# Altium schematic symbol library digital.SchLib: 39 symbols
Pins are listed as number, name and electrical type; pins without a type are passive.

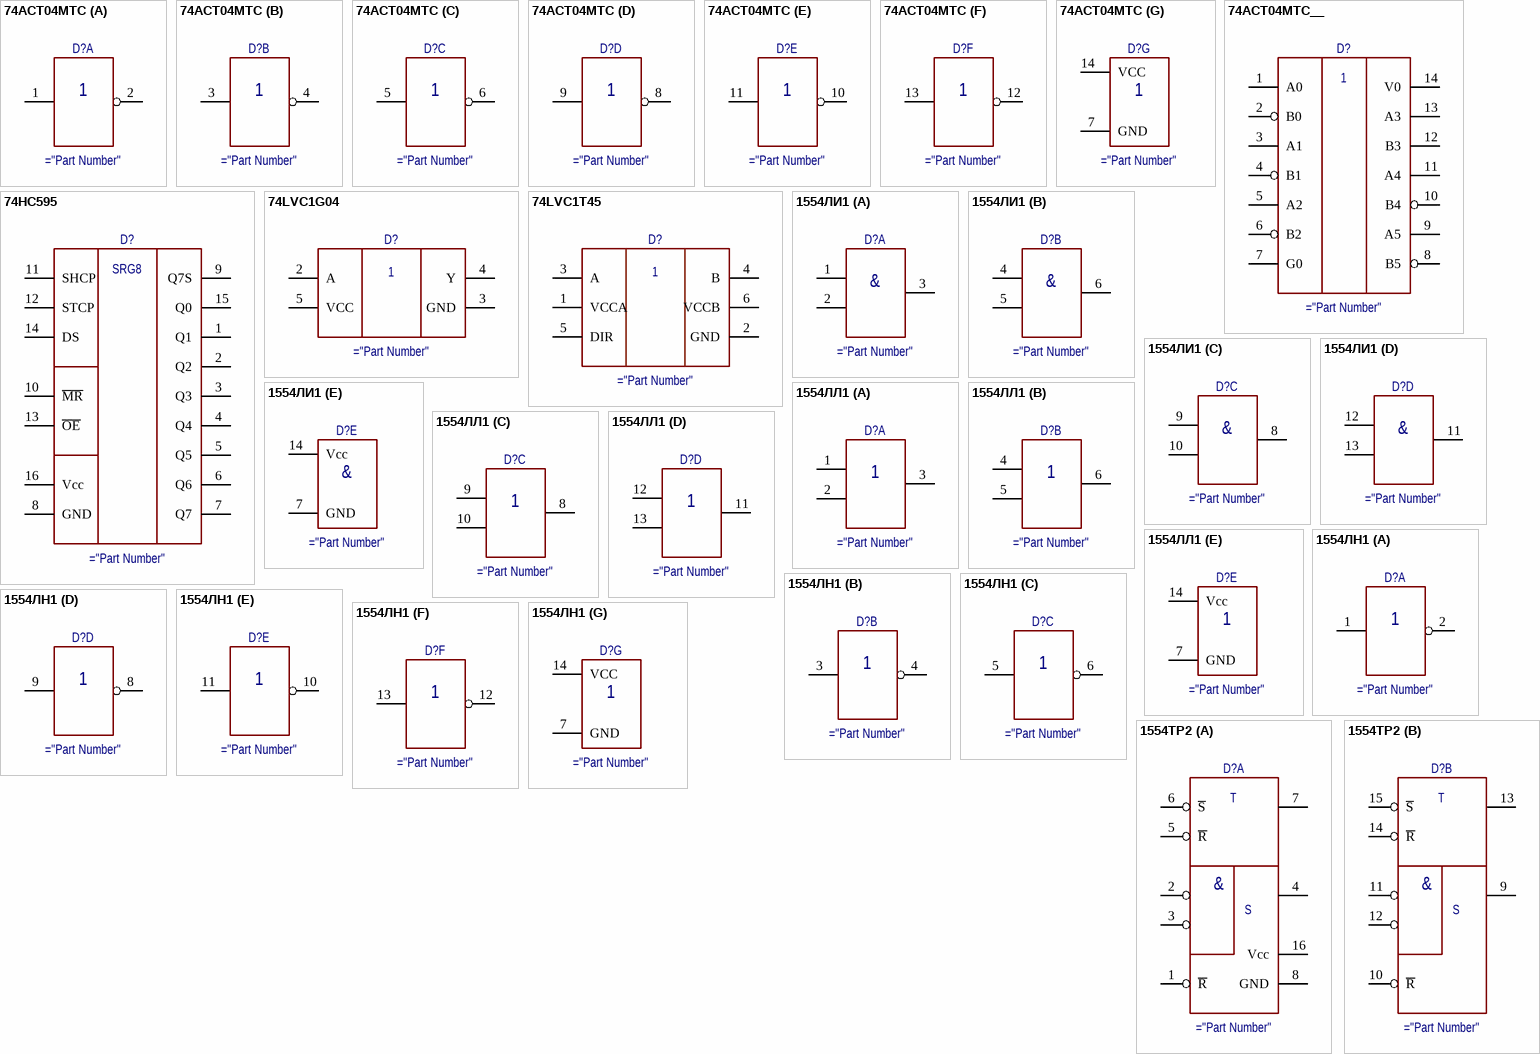
[diagram p0: symbols 74ACT04MTC to 1554ТР2]

## 74ACT04MTC
designator D?
6 элементов НЕ
part A pins: 1 X1, 2 Y1
part B pins: 3 X2, 4 Y2
part C pins: 5 X3, 6 Y3
part D pins: 8 Y4, 9 X4
part E pins: 10 Y5, 11 X5
part F pins: 12 Y6, 13 X6
part G pins: 7 GND, 14 VCC

## 74ACT04MTC__
designator D?
6 элементов НЕ
pins: 1 A0, 2 B0, 3 A1, 4 B1, 5 A2, 6 B2, 7 G0, 8 B5, 9 A5, 10 B4, 11 A4, 12 B3, 13 A3, 14 V0

## 74HC595
designator D?
Shift Register 8-bit
pins: 1 Q1, 2 Q2, 3 Q3, 4 Q4, 5 Q5, 6 Q6, 7 Q7, 8 GND, 9 Q7S, 10 ~{MR}, 11 SHCP, 12 STCP, 13 ~{OE}, 14 DS, 15 Q0, 16 Vcc
text: SRG8

## 74LVC1G04
designator D?
Single inverter, single direction
pins: 1 NC hidden, 2 A, 3 GND, 4 Y, 5 VCC

## 74LVC1T45
designator D?
Single bidirectional buffer 1.2-5.5V
pins: 1 NC hidden, 1 VCCA, 2 GND, 3 A, 4 B, 5 DIR, 6 VCCB

## 1554ЛИ1
designator D?
4 элемента 2И
part A pins: 1 A1, 2 B1, 3 Y1
part B pins: 4 A2, 5 B2, 6 Y2
part C pins: 8 Y3, 9 A3, 10 B3
part D pins: 11 Y4, 12 A4, 13 B4
part E pins: 7 GND, 14 Vcc
part A text: &
part B text: &
part C text: &
part D text: &
part E text: &

## 1554ЛЛ1
designator D?
4 элемента 2ИЛИ
part A pins: 1 A1, 2 B1, 3 Y1
part B pins: 4 A2, 5 B2, 6 Y2
part C pins: 8 Y3, 9 A3, 10 B3
part D pins: 11 Y4, 12 A4, 13 B4
part E pins: 7 GND, 14 Vcc

## 1554ЛН1
designator D?
6 элементов НЕ
part A pins: 1 X1, 2 Y1
part B pins: 3 X2, 4 Y2
part C pins: 5 X3, 6 Y3
part D pins: 8 Y4, 9 X4
part E pins: 10 Y5, 11 X5
part F pins: 12 Y6, 13 X6
part G pins: 7 GND, 14 VCC

## 1554ТР2
designator D?
4 RS триггера
part A pins: 1 ~{R}, 2 ~{1S1}, 3 ~{1S2}, 4 1Q, 5 ~{R}, 6 ~{S}, 7 2Q, 8 GND, 16 Vcc
part B pins: 9 3Q, 10 ~{R}, 11 ~{3S1}, 12 ~{3S2}, 13 4Q, 14 ~{R}, 15 ~{S}
part A text: T; &; S
part B text: T; &; S

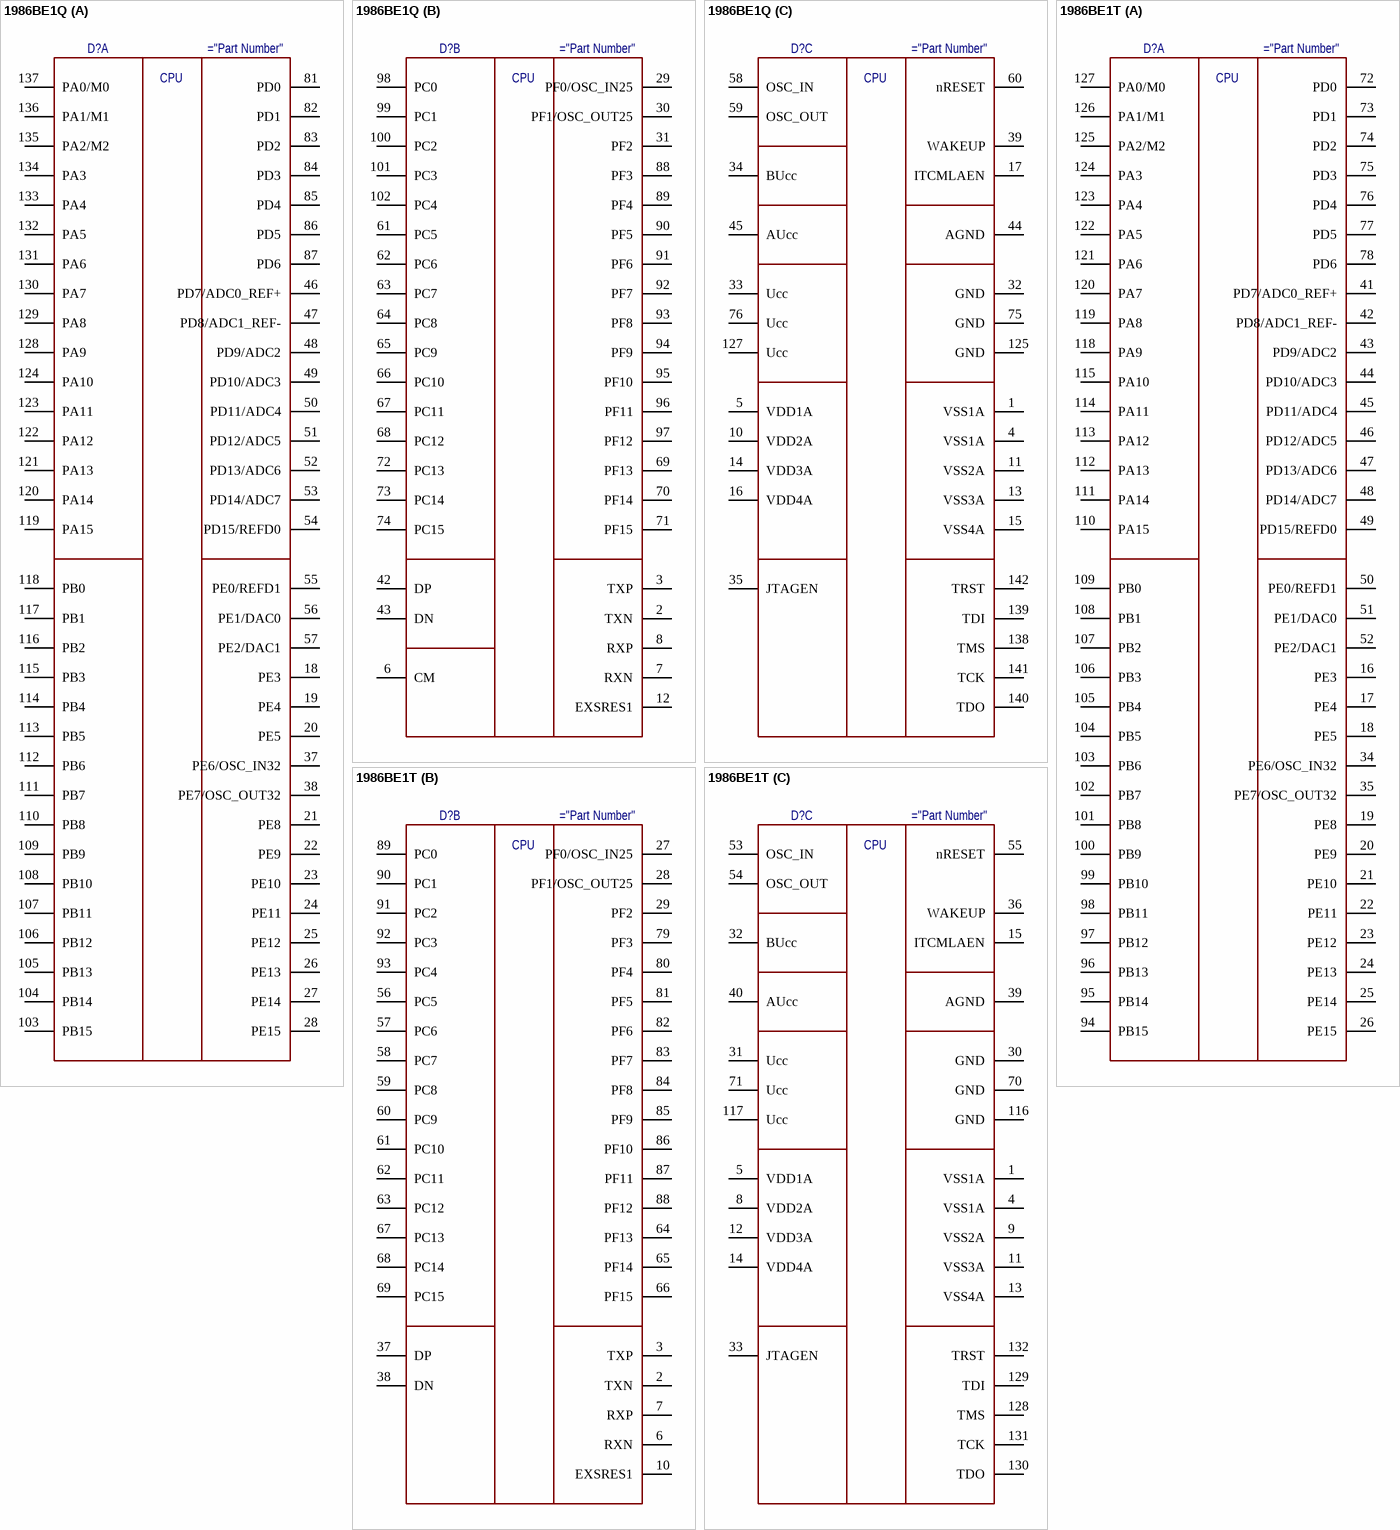
[diagram p1: symbols 1986ВЕ1Q to 1986ВЕ1Т]

## 1986ВЕ1Q
designator D?
MCU Cortex-M1
part A pins: 18 PE3, 19 PE4, 20 PE5, 21 PE8, 22 PE9, 23 PE10, 24 PE11, 25 PE12, 26 PE13, 27 PE14, 28 PE15, 37 PE6/OSC_IN32, 38 PE7/OSC_OUT32, 46 PD7/ADC0_REF+, 47 PD8/ADC1_REF-, 48 PD9/ADC2, 49 PD10/ADC3, 50 PD11/ADC4, 51 PD12/ADC5, 52 PD13/ADC6, 53 PD14/ADC7, 54 PD15/REFD0, 55 PE0/REFD1, 56 PE1/DAC0, 57 PE2/DAC1, 81 PD0, 82 PD1, 83 PD2, 84 PD3, 85 PD4, 86 PD5, 87 PD6, 103 PB15, 104 PB14, 105 PB13, 106 PB12, 107 PB11, 108 PB10, 109 PB9, 110 PB8, 111 PB7, 112 PB6, 113 PB5, 114 PB4, 115 PB3, 116 PB2, 117 PB1, 118 PB0, 119 PA15, 120 PA14, 121 PA13, 122 PA12, 123 PA11, 124 PA10, 128 PA9, 129 PA8, 130 PA7, 131 PA6, 132 PA5, 133 PA4, 134 PA3, 135 PA2/M2, 136 PA1/M1, 137 PA0/M0
part B pins: 2 TXN, 3 TXP, 6 CM, 7 RXN, 8 RXP, 12 EXSRES1, 29 PF0/OSC_IN25, 30 PF1/OSC_OUT25, 31 PF2, 42 DP, 43 DN, 61 PC5, 62 PC6, 63 PC7, 64 PC8, 65 PC9, 66 PC10, 67 PC11, 68 PC12, 69 PF13, 70 PF14, 71 PF15, 72 PC13, 73 PC14, 74 PC15, 88 PF3, 89 PF4, 90 PF5, 91 PF6, 92 PF7, 93 PF8, 94 PF9, 95 PF10, 96 PF11, 97 PF12, 98 PC0, 99 PC1, 100 PC2, 101 PC3, 102 PC4
part C pins: 1 VSS1A (power), 4 VSS1A (power), 5 VDD1A (power), 9 NC (power) hidden, 10 VDD2A (power), 11 VSS2A (power), 13 VSS3A (power), 14 VDD3A (power), 15 VSS4A (power), 16 VDD4A (power), 17 ITCMLAEN, 32 GND (power), 33 Ucc (power), 34 BUcc (power), 35 JTAGEN, 36 NC (power) hidden, 39 WAKEUP, 40 NC (power) hidden, 41 NC (power) hidden, 44 AGND (power), 45 AUcc (power), 58 OSC_IN, 59 OSC_OUT, 60 nRESET, 75 GND (power), 76 Ucc (power), 77 NC (power) hidden, 78 NC (power) hidden, 79 NC (power) hidden, 80 NC (power) hidden, 125 GND (power), 126 NC (power) hidden, 127 Ucc (power), 138 TMS, 139 TDI, 140 TDO, 141 TCK, 142 TRST
part A text: CPU
part B text: CPU
part C text: CPU

## 1986ВЕ1Т
designator D?
MCU Cortex-M1
part A pins: 16 PE3, 17 PE4, 18 PE5, 19 PE8, 20 PE9, 21 PE10, 22 PE11, 23 PE12, 24 PE13, 25 PE14, 26 PE15, 34 PE6/OSC_IN32, 35 PE7/OSC_OUT32, 41 PD7/ADC0_REF+, 42 PD8/ADC1_REF-, 43 PD9/ADC2, 44 PD10/ADC3, 45 PD11/ADC4, 46 PD12/ADC5, 47 PD13/ADC6, 48 PD14/ADC7, 49 PD15/REFD0, 50 PE0/REFD1, 51 PE1/DAC0, 52 PE2/DAC1, 72 PD0, 73 PD1, 74 PD2, 75 PD3, 76 PD4, 77 PD5, 78 PD6, 94 PB15, 95 PB14, 96 PB13, 97 PB12, 98 PB11, 99 PB10, 100 PB9, 101 PB8, 102 PB7, 103 PB6, 104 PB5, 105 PB4, 106 PB3, 107 PB2, 108 PB1, 109 PB0, 110 PA15, 111 PA14, 112 PA13, 113 PA12, 114 PA11, 115 PA10, 118 PA9, 119 PA8, 120 PA7, 121 PA6, 122 PA5, 123 PA4, 124 PA3, 125 PA2/M2, 126 PA1/M1, 127 PA0/M0
part B pins: 2 TXN, 3 TXP, 6 RXN, 7 RXP, 10 EXSRES1, 27 PF0/OSC_IN25, 28 PF1/OSC_OUT25, 29 PF2, 37 DP, 38 DN, 56 PC5, 57 PC6, 58 PC7, 59 PC8, 60 PC9, 61 PC10, 62 PC11, 63 PC12, 64 PF13, 65 PF14, 66 PF15, 67 PC13, 68 PC14, 69 PC15, 79 PF3, 80 PF4, 81 PF5, 82 PF6, 83 PF7, 84 PF8, 85 PF9, 86 PF10, 87 PF11, 88 PF12, 89 PC0, 90 PC1, 91 PC2, 92 PC3, 93 PC4
part C pins: 1 VSS1A (power), 4 VSS1A (power), 5 VDD1A (power), 8 VDD2A (power), 9 VSS2A (power), 11 VSS3A (power), 12 VDD3A (power), 13 VSS4A (power), 14 VDD4A (power), 15 ITCMLAEN, 30 GND (power), 31 Ucc (power), 32 BUcc (power), 33 JTAGEN, 36 WAKEUP, 39 AGND (power), 40 AUcc (power), 53 OSC_IN, 54 OSC_OUT, 55 nRESET, 70 GND (power), 71 Ucc (power), 116 GND (power), 117 Ucc (power), 128 TMS, 129 TDI, 130 TDO, 131 TCK, 132 TRST
part A text: CPU
part B text: CPU
part C text: CPU

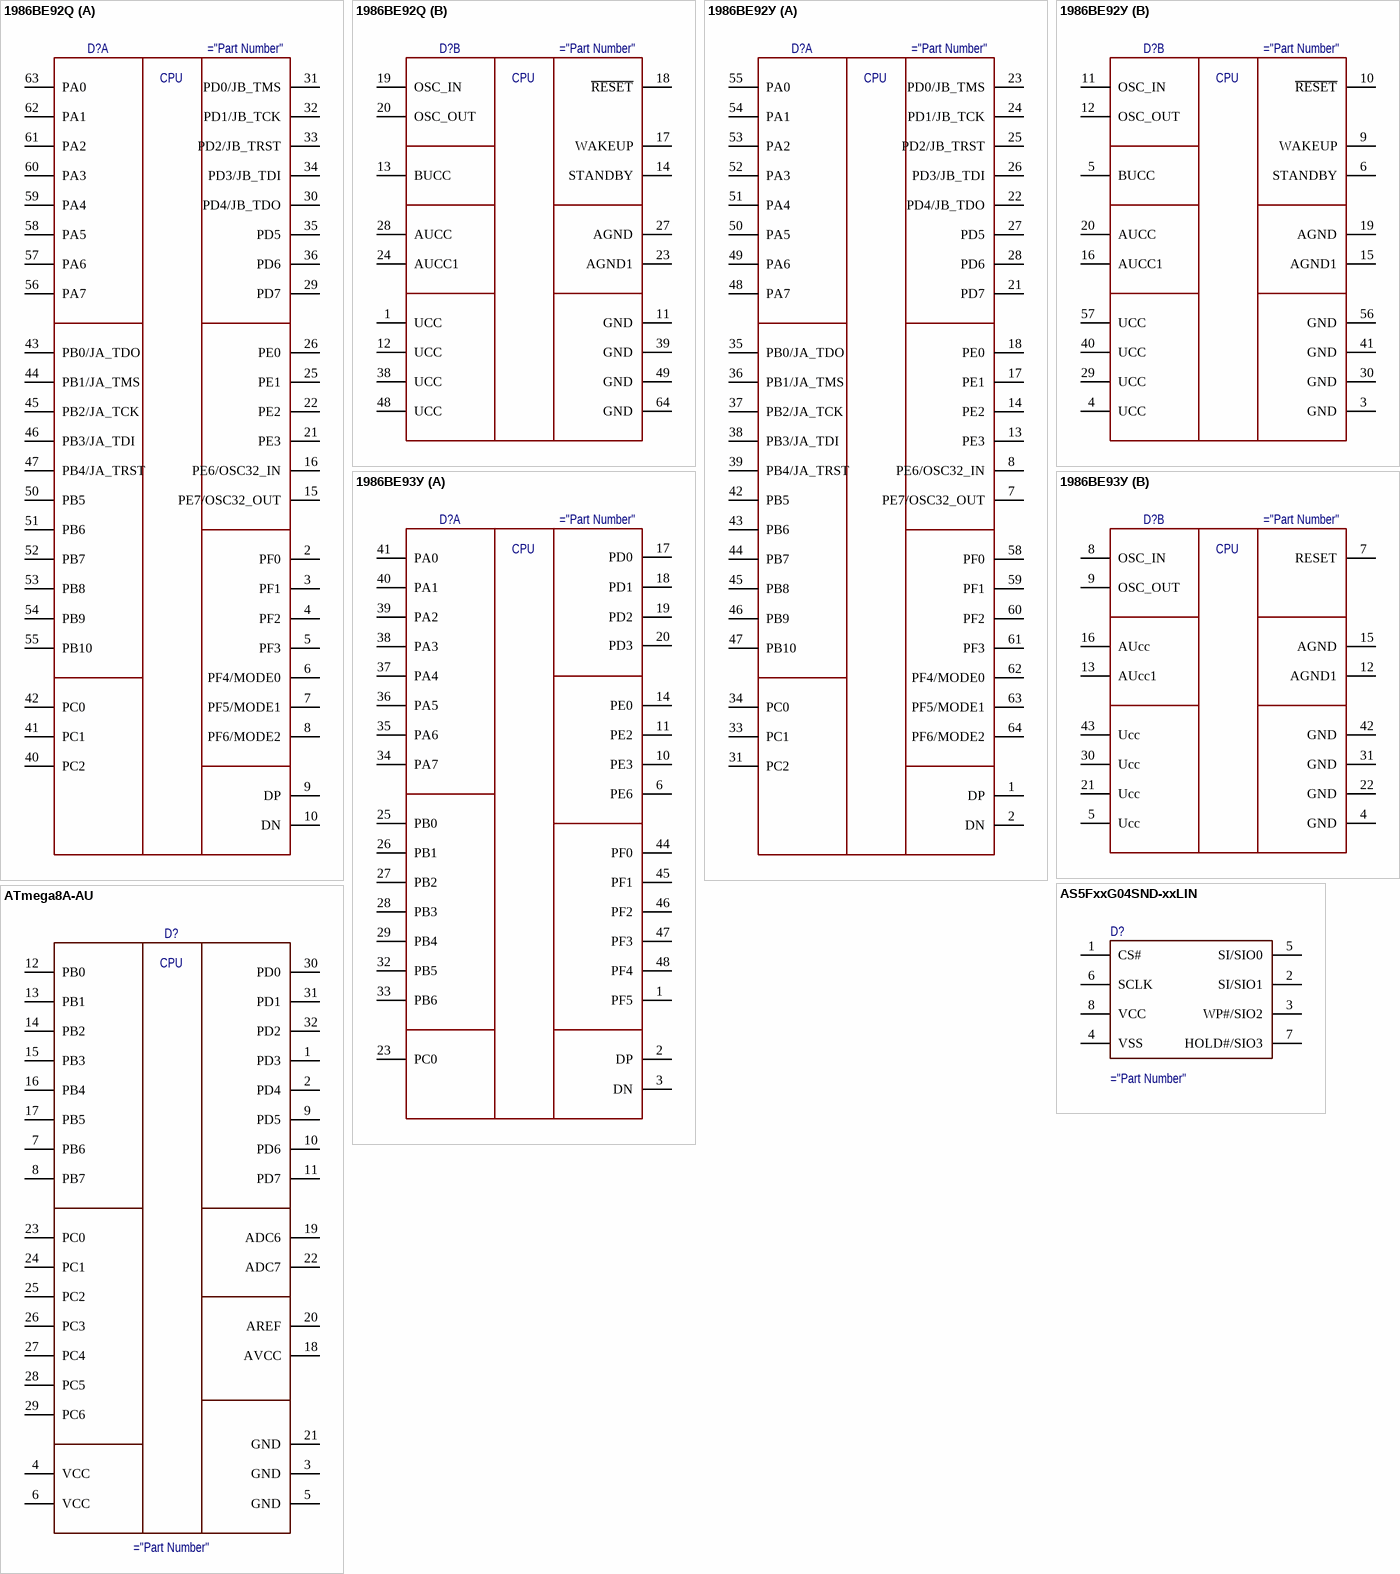
[diagram p2: symbols 1986ВЕ92Q to ATmega8A-AU]

## 1986ВЕ92Q
designator D?
MCU Cortex-M3
part A pins: 2 PF0, 3 PF1, 4 PF2, 5 PF3, 6 PF4/MODE0, 7 PF5/MODE1, 8 PF6/MODE2, 9 DP, 10 DN, 15 PE7/OSC32_OUT, 16 PE6/OSC32_IN, 21 PE3, 22 PE2, 25 PE1, 26 PE0, 29 PD7, 30 PD4/JB_TDO, 31 PD0/JB_TMS, 32 PD1/JB_TCK, 33 PD2/JB_TRST, 34 PD3/JB_TDI, 35 PD5, 36 PD6, 37 NC hidden, 40 PC2, 41 PC1, 42 PC0, 43 PB0/JA_TDO, 44 PB1/JA_TMS, 45 PB2/JA_TCK, 46 PB3/JA_TDI, 47 PB4/JA_TRST, 50 PB5, 51 PB6, 52 PB7, 53 PB8, 54 PB9, 55 PB10, 56 PA7, 57 PA6, 58 PA5, 59 PA4, 60 PA3, 61 PA2, 62 PA1, 63 PA0
part B pins: 1 UCC, 11 GND, 12 UCC, 13 BUCC, 14 STANDBY, 17 WAKEUP, 18 ~{RESET}, 19 OSC_IN, 20 OSC_OUT, 23 AGND1, 24 AUCC1, 27 AGND, 28 AUCC, 38 UCC, 39 GND, 48 UCC, 49 GND, 64 GND
part A text: CPU
part B text: CPU

## 1986ВЕ92У
designator D?
MCU Cortex-M3
part A pins: 1 DP, 2 DN, 7 PE7/OSC32_OUT, 8 PE6/OSC32_IN, 13 PE3, 14 PE2, 17 PE1, 18 PE0, 21 PD7, 22 PD4/JB_TDO, 23 PD0/JB_TMS, 24 PD1/JB_TCK, 25 PD2/JB_TRST, 26 PD3/JB_TDI, 27 PD5, 28 PD6, 31 PC2, 32 NC hidden, 33 PC1, 34 PC0, 35 PB0/JA_TDO, 36 PB1/JA_TMS, 37 PB2/JA_TCK, 38 PB3/JA_TDI, 39 PB4/JA_TRST, 42 PB5, 43 PB6, 44 PB7, 45 PB8, 46 PB9, 47 PB10, 48 PA7, 49 PA6, 50 PA5, 51 PA4, 52 PA3, 53 PA2, 54 PA1, 55 PA0, 58 PF0, 59 PF1, 60 PF2, 61 PF3, 62 PF4/MODE0, 63 PF5/MODE1, 64 PF6/MODE2
part B pins: 3 GND, 4 UCC, 5 BUCC, 6 STANDBY, 9 WAKEUP, 10 ~{RESET}, 11 OSC_IN, 12 OSC_OUT, 15 AGND1, 16 AUCC1, 19 AGND, 20 AUCC, 29 UCC, 30 GND, 40 UCC, 41 GND, 56 GND, 57 UCC
part A text: CPU
part B text: CPU

## 1986ВЕ93У
designator D?
MCU Cortex-M3
part A pins: 1 PF5, 2 DP, 3 DN, 6 PE6, 10 PE3, 11 PE2, 14 PE0, 17 PD0, 18 PD1, 19 PD2, 20 PD3, 23 PC0, 25 PB0, 26 PB1, 27 PB2, 28 PB3, 29 PB4, 32 PB5, 33 PB6, 34 PA7, 35 PA6, 36 PA5, 37 PA4, 38 PA3, 39 PA2, 40 PA1, 41 PA0, 44 PF0, 45 PF1, 46 PF2, 47 PF3, 48 PF4
part B pins: 4 GND, 5 Ucc, 7 RESET, 8 OSC_IN, 9 OSC_OUT, 12 AGND1, 13 AUcc1, 15 AGND, 16 AUcc, 21 Ucc, 22 GND, 30 Ucc, 31 GND, 42 GND, 43 Ucc
part A text: CPU
part B text: CPU

## AS5FxxG04SND-xxLIN
designator D?
FLASH
pins: 1 CS#, 2 SI/SIO1, 3 WP#/SIO2, 4 VSS, 5 SI/SIO0, 6 SCLK, 7 HOLD#/SIO3, 8 VCC

## ATmega8A-AU
designator D?
MCU ESP32
pins: 1 PD3, 2 PD4, 3 GND, 4 VCC, 5 GND, 6 VCC, 7 PB6, 8 PB7, 9 PD5, 10 PD6, 11 PD7, 12 PB0, 13 PB1, 14 PB2, 15 PB3, 16 PB4, 17 NC hidden, 17 PB5, 18 NC hidden, 18 AVCC, 19 NC hidden, 19 ADC6, 20 NC hidden, 20 AREF, 21 NC hidden, 21 GND, 22 NC hidden, 22 ADC7, 23 PC0, 24 PC1, 25 PC2, 26 PC3, 27 PC4, 28 PC5, 29 PC6, 30 PD0, 31 PD1, 32 NC hidden, 32 PD2
text: CPU

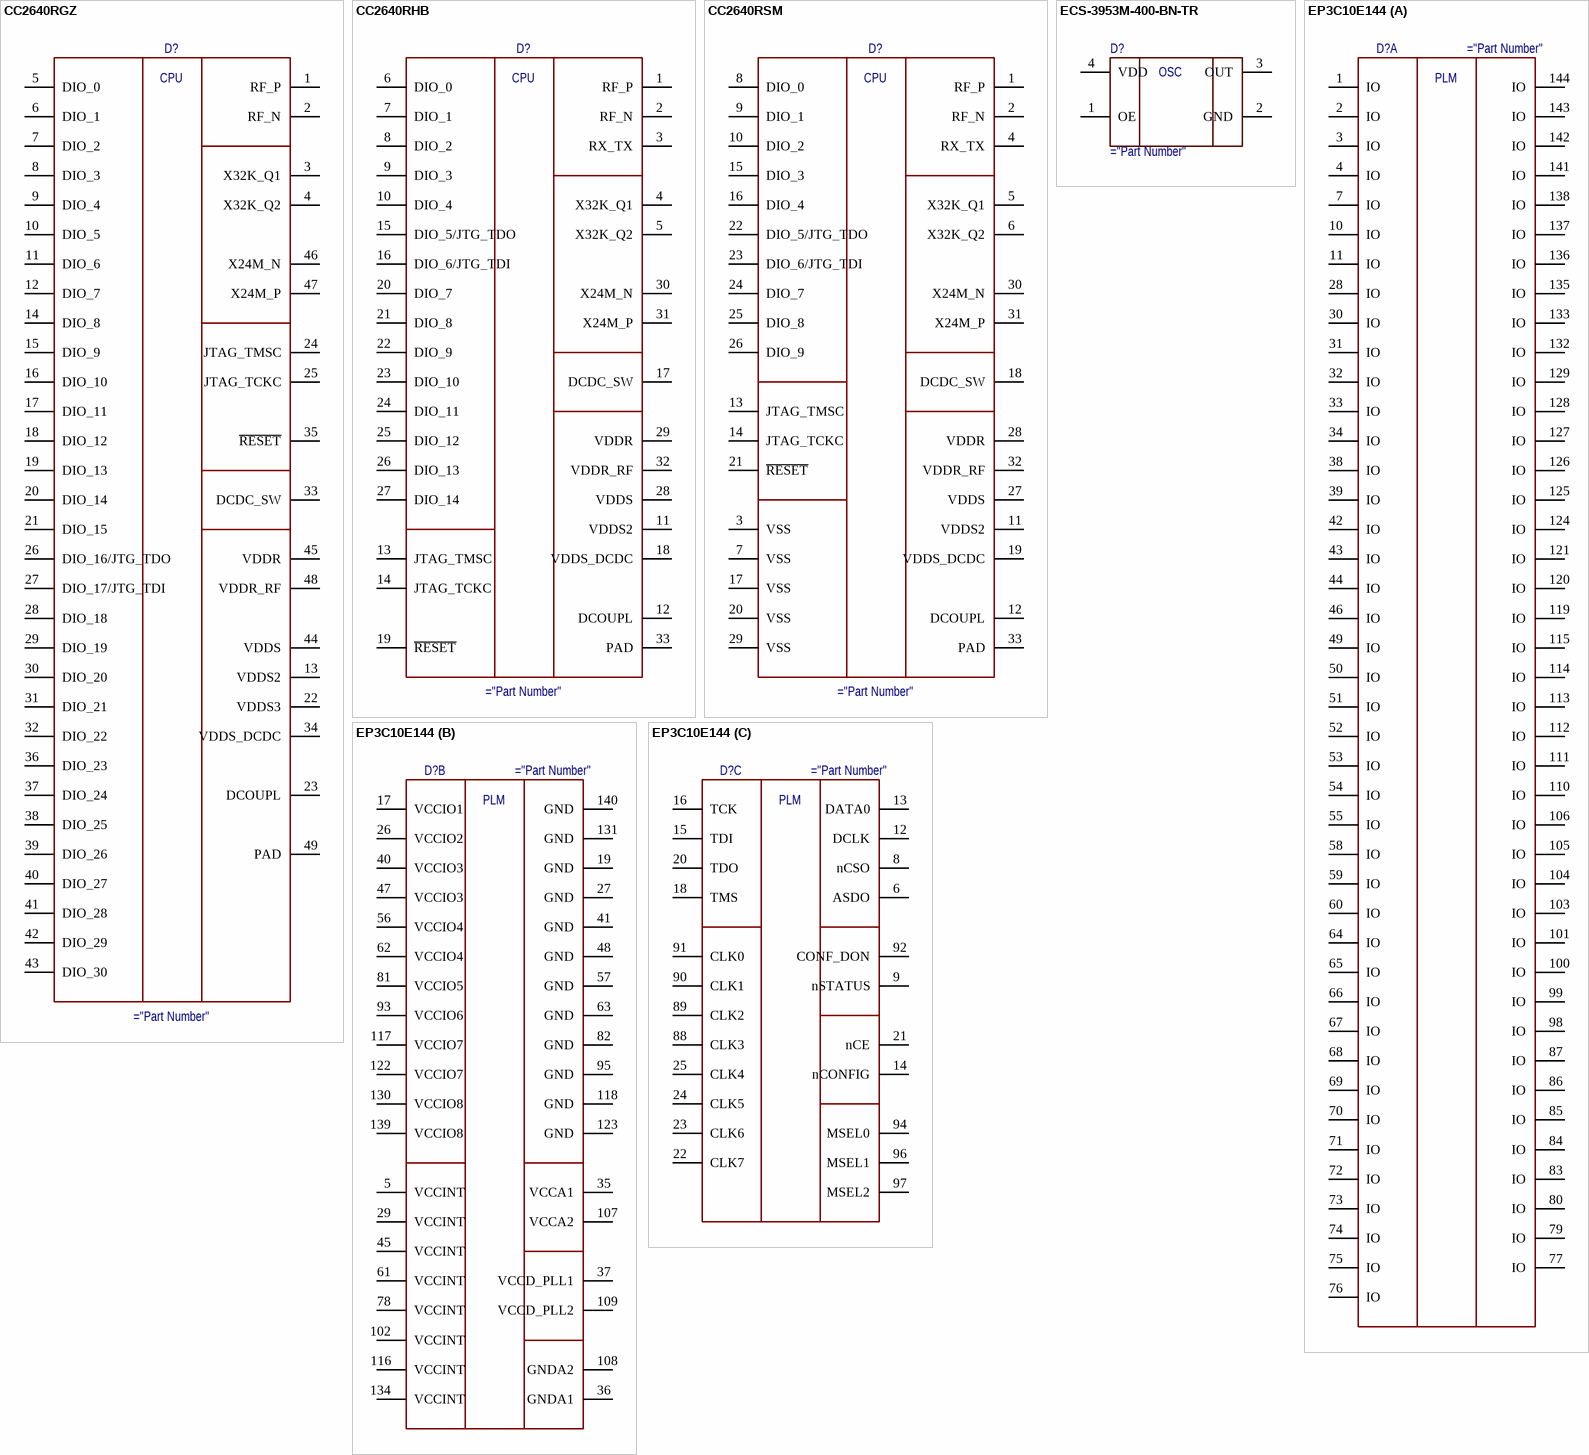
[diagram p3: symbols CC2640RGZ to EP3C10E144]

## CC2640RGZ
designator D?
BLE Wireless MCU Cortex-M3 48-pins
pins: 1 RF_P, 2 RF_N, 3 X32K_Q1, 4 X32K_Q2, 5 DIO_0, 6 DIO_1, 7 DIO_2, 8 DIO_3, 9 DIO_4, 10 DIO_5, 11 DIO_6, 12 DIO_7, 13 VDDS2, 14 DIO_8, 15 DIO_9, 16 DIO_10, 17 DIO_11, 18 DIO_12, 19 DIO_13, 20 DIO_14, 21 DIO_15, 22 VDDS3, 23 DCOUPL, 24 JTAG_TMSC, 25 JTAG_TCKC, 26 DIO_16/JTG_TDO, 27 DIO_17/JTG_TDI, 28 DIO_18, 29 DIO_19, 30 DIO_20, 31 DIO_21, 32 DIO_22, 33 DCDC_SW, 34 VDDS_DCDC, 35 ~{RESET}, 36 DIO_23, 37 DIO_24, 38 DIO_25, 39 DIO_26, 40 DIO_27, 41 DIO_28, 42 DIO_29, 43 DIO_30, 44 VDDS, 45 VDDR, 46 X24M_N, 47 X24M_P, 48 VDDR_RF, 49 PAD
text: CPU

## CC2640RHB
designator D?
BLE Wireless MCU Cortex-M3 32-pins
pins: 1 RF_P, 2 RF_N, 3 RX_TX, 4 X32K_Q1, 5 X32K_Q2, 6 DIO_0, 7 DIO_1, 8 DIO_2, 9 DIO_3, 10 DIO_4, 11 VDDS2, 12 DCOUPL, 13 JTAG_TMSC, 14 JTAG_TCKC, 15 DIO_5/JTG_TDO, 16 DIO_6/JTG_TDI, 17 DCDC_SW, 18 VDDS_DCDC, 19 ~{RESET}, 20 DIO_7, 21 DIO_8, 22 DIO_9, 23 DIO_10, 24 DIO_11, 25 DIO_12, 26 DIO_13, 27 DIO_14, 28 VDDS, 29 VDDR, 30 X24M_N, 31 X24M_P, 32 VDDR_RF, 33 PAD
text: CPU

## CC2640RSM
designator D?
BLE Wireless MCU Cortex-M3 32-pins
pins: 1 RF_P, 2 RF_N, 3 VSS, 4 RX_TX, 5 X32K_Q1, 6 X32K_Q2, 7 VSS, 8 DIO_0, 9 DIO_1, 10 DIO_2, 11 VDDS2, 12 DCOUPL, 13 JTAG_TMSC, 14 JTAG_TCKC, 15 DIO_3, 16 DIO_4, 17 VSS, 18 DCDC_SW, 19 VDDS_DCDC, 20 VSS, 21 ~{RESET}, 22 DIO_5/JTG_TDO, 23 DIO_6/JTG_TDI, 24 DIO_7, 25 DIO_8, 26 DIO_9, 27 VDDS, 28 VDDR, 29 VSS, 30 X24M_N, 31 X24M_P, 32 VDDR_RF, 33 PAD
text: CPU

## ECS-3953M-400-BN-TR
designator D?
Crystal, 40MHz,3.3V
pins: 1 OE, 2 GND, 3 OUT, 4 VDD
text: OSC

## EP3C10E144
designator D?
FPGA Cyclone III
part A pins: 1 IO, 2 IO, 3 IO, 4 IO, 7 IO, 10 IO, 11 IO, 28 IO, 30 IO, 31 IO, 32 IO, 33 IO, 34 IO, 38 IO, 39 IO, 42 IO, 43 IO, 44 IO, 46 IO, 49 IO, 50 IO, 51 IO, 52 IO, 53 IO, 54 IO, 55 IO, 58 IO, 59 IO, 60 IO, 64 IO, 65 IO, 66 IO, 67 IO, 68 IO, 69 IO, 70 IO, 71 IO, 72 IO, 73 IO, 74 IO, 75 IO, 76 IO, 77 IO, 79 IO, 80 IO, 83 IO, 84 IO, 85 IO, 86 IO, 87 IO, 98 IO, 99 IO, 100 IO, 101 IO, 103 IO, 104 IO, 105 IO, 106 IO, 110 IO, 111 IO, 112 IO, 113 IO, 114 IO, 115 IO, 119 IO, 120 IO, 121 IO, 124 IO, 125 IO, 126 IO, 127 IO, 128 IO, 129 IO, 132 IO, 133 IO, 135 IO, 136 IO, 137 IO, 138 IO, 141 IO, 142 IO, 143 IO, 144 IO
part B pins: 5 VCCINT, 17 VCCIO1, 19 GND, 26 VCCIO2, 27 GND, 29 VCCINT, 35 VCCA1, 36 GNDA1, 37 VCCD_PLL1, 40 VCCIO3, 41 GND, 45 VCCINT, 47 VCCIO3, 48 GND, 56 VCCIO4, 57 GND, 61 VCCINT, 62 VCCIO4, 63 GND, 78 VCCINT, 81 VCCIO5, 82 GND, 93 VCCIO6, 95 GND, 102 VCCINT, 107 VCCA2, 108 GNDA2, 109 VCCD_PLL2, 116 VCCINT, 117 VCCIO7, 118 GND, 122 VCCIO7, 123 GND, 130 VCCIO8, 131 GND, 134 VCCINT, 139 VCCIO8, 140 GND
part C pins: 6 ASDO, 8 nCSO, 9 nSTATUS, 12 DCLK, 13 DATA0, 14 nCONFIG, 15 TDI, 16 TCK, 18 TMS, 20 TDO, 21 nCE, 22 CLK7, 23 CLK6, 24 CLK5, 25 CLK4, 88 CLK3, 89 CLK2, 90 CLK1, 91 CLK0, 92 CONF_DON, 94 MSEL0, 96 MSEL1, 97 MSEL2
part A text: PLM
part B text: PLM
part C text: PLM

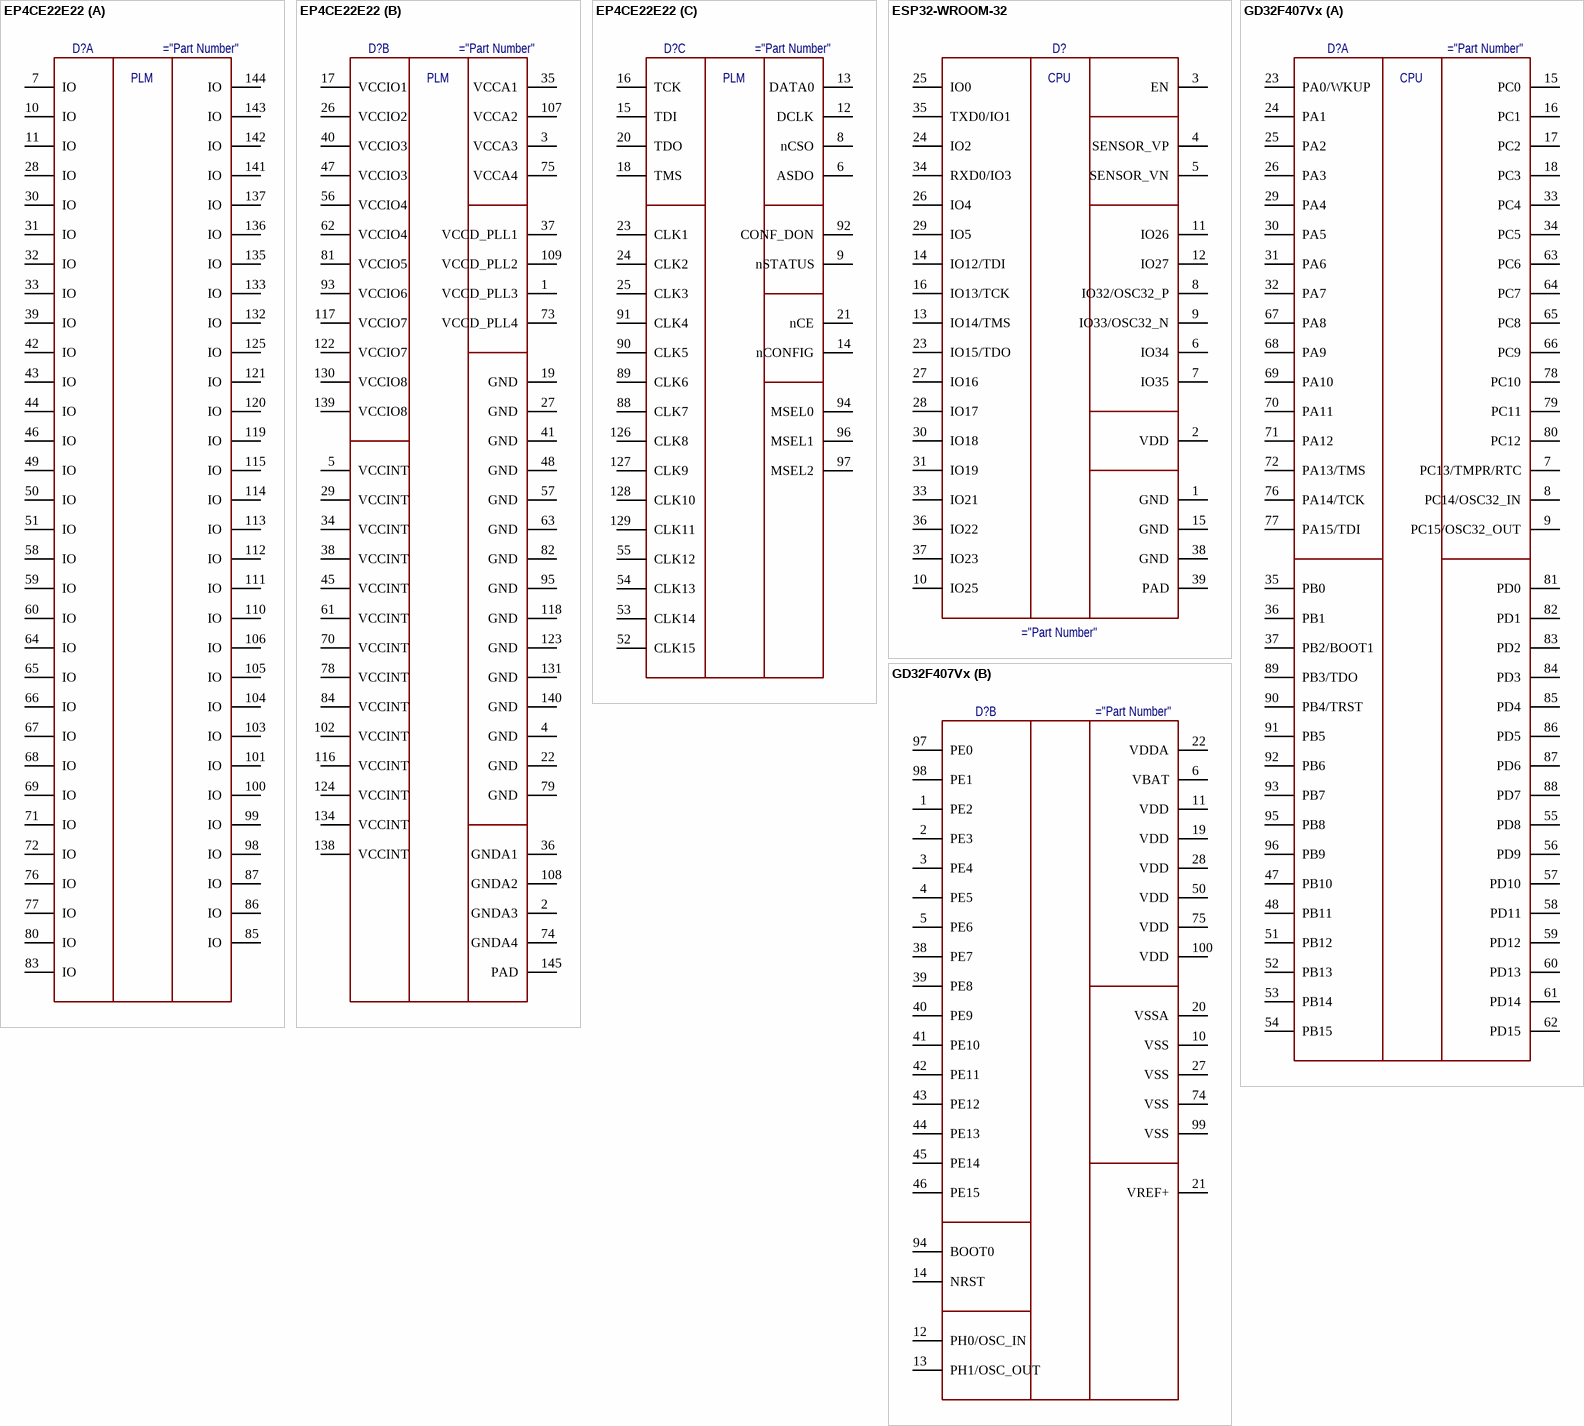
[diagram p4: symbols EP4CE22E22 to GD32F407Vx]

## EP4CE22E22
designator D?
FPGA Cyclone IV E
part A pins: 7 IO, 10 IO, 11 IO, 28 IO, 30 IO, 31 IO, 32 IO, 33 IO, 39 IO, 42 IO, 43 IO, 44 IO, 46 IO, 49 IO, 50 IO, 51 IO, 58 IO, 59 IO, 60 IO, 64 IO, 65 IO, 66 IO, 67 IO, 68 IO, 69 IO, 71 IO, 72 IO, 76 IO, 77 IO, 80 IO, 83 IO, 85 IO, 86 IO, 87 IO, 98 IO, 99 IO, 100 IO, 101 IO, 103 IO, 104 IO, 105 IO, 106 IO, 110 IO, 111 IO, 112 IO, 113 IO, 114 IO, 115 IO, 119 IO, 120 IO, 121 IO, 125 IO, 132 IO, 133 IO, 135 IO, 136 IO, 137 IO, 141 IO, 142 IO, 143 IO, 144 IO
part B pins: 1 VCCD_PLL3, 2 GNDA3, 3 VCCA3, 4 GND, 5 VCCINT, 17 VCCIO1, 19 GND, 22 GND, 26 VCCIO2, 27 GND, 29 VCCINT, 34 VCCINT, 35 VCCA1, 36 GNDA1, 37 VCCD_PLL1, 38 VCCINT, 40 VCCIO3, 41 GND, 45 VCCINT, 47 VCCIO3, 48 GND, 56 VCCIO4, 57 GND, 61 VCCINT, 62 VCCIO4, 63 GND, 70 VCCINT, 73 VCCD_PLL4, 74 GNDA4, 75 VCCA4, 78 VCCINT, 79 GND, 81 VCCIO5, 82 GND, 84 VCCINT, 93 VCCIO6, 95 GND, 102 VCCINT, 107 VCCA2, 108 GNDA2, 109 VCCD_PLL2, 116 VCCINT, 117 VCCIO7, 118 GND, 122 VCCIO7, 123 GND, 124 VCCINT, 130 VCCIO8, 131 GND, 134 VCCINT, 138 VCCINT, 139 VCCIO8, 140 GND, 145 PAD
part C pins: 6 ASDO, 8 nCSO, 9 nSTATUS, 12 DCLK, 13 DATA0, 14 nCONFIG, 15 TDI, 16 TCK, 18 TMS, 20 TDO, 21 nCE, 23 CLK1, 24 CLK2, 25 CLK3, 52 CLK15, 53 CLK14, 54 CLK13, 55 CLK12, 88 CLK7, 89 CLK6, 90 CLK5, 91 CLK4, 92 CONF_DON, 94 MSEL0, 96 MSEL1, 97 MSEL2, 126 CLK8, 127 CLK9, 128 CLK10, 129 CLK11
part A text: PLM
part B text: PLM
part C text: PLM

## ESP32-WROOM-32
designator D?
MCU ESP32
pins: 1 GND, 2 VDD, 3 EN, 4 SENSOR_VP, 5 SENSOR_VN, 6 IO34, 7 IO35, 8 IO32/OSC32_P, 9 IO33/OSC32_N, 10 IO25, 11 IO26, 12 IO27, 13 IO14/TMS, 14 IO12/TDI, 15 GND, 16 IO13/TCK, 17 NC hidden, 18 NC hidden, 19 NC hidden, 20 NC hidden, 21 NC hidden, 22 NC hidden, 23 IO15/TDO, 24 IO2, 25 IO0, 26 IO4, 27 IO16, 28 IO17, 29 IO5, 30 IO18, 31 IO19, 32 NC hidden, 33 IO21, 34 RXD0/IO3, 35 TXD0/IO1, 36 IO22, 37 IO23, 38 GND, 39 PAD
text: CPU

## GD32F407Vx
designator D?
MCU Cortex-M
part A pins: 7 PC13/TMPR/RTC, 8 PC14/OSC32_IN, 9 PC15/OSC32_OUT, 15 PC0, 16 PC1, 17 PC2, 18 PC3, 23 PA0/WKUP, 24 PA1, 25 PA2, 26 PA3, 29 PA4, 30 PA5, 31 PA6, 32 PA7, 33 PC4, 34 PC5, 35 PB0, 36 PB1, 37 PB2/BOOT1, 47 PB10, 48 PB11, 51 PB12, 52 PB13, 53 PB14, 54 PB15, 55 PD8, 56 PD9, 57 PD10, 58 PD11, 59 PD12, 60 PD13, 61 PD14, 62 PD15, 63 PC6, 64 PC7, 65 PC8, 66 PC9, 67 PA8, 68 PA9, 69 PA10, 70 PA11, 71 PA12, 72 PA13/TMS, 76 PA14/TCK, 77 PA15/TDI, 78 PC10, 79 PC11, 80 PC12, 81 PD0, 82 PD1, 83 PD2, 84 PD3, 85 PD4, 86 PD5, 87 PD6, 88 PD7, 89 PB3/TDO, 90 PB4/TRST, 91 PB5, 92 PB6, 93 PB7, 95 PB8, 96 PB9
part B pins: 1 PE2, 2 PE3, 3 PE4, 4 PE5, 5 PE6, 6 VBAT (power), 10 VSS (power), 11 VDD (power), 12 PH0/OSC_IN, 13 PH1/OSC_OUT, 14 NRST, 19 VDD (power), 20 VSSA (power), 21 VREF+ (power), 22 VDDA (power), 27 VSS (power), 28 VDD (power), 38 PE7, 39 PE8, 40 PE9, 41 PE10, 42 PE11, 43 PE12, 44 PE13, 45 PE14, 46 PE15, 49 NC (power) hidden, 50 VDD (power), 73 NC (power) hidden, 74 VSS (power), 75 VDD (power), 94 BOOT0, 97 PE0, 98 PE1, 99 VSS (power), 100 VDD (power)
part A text: CPU

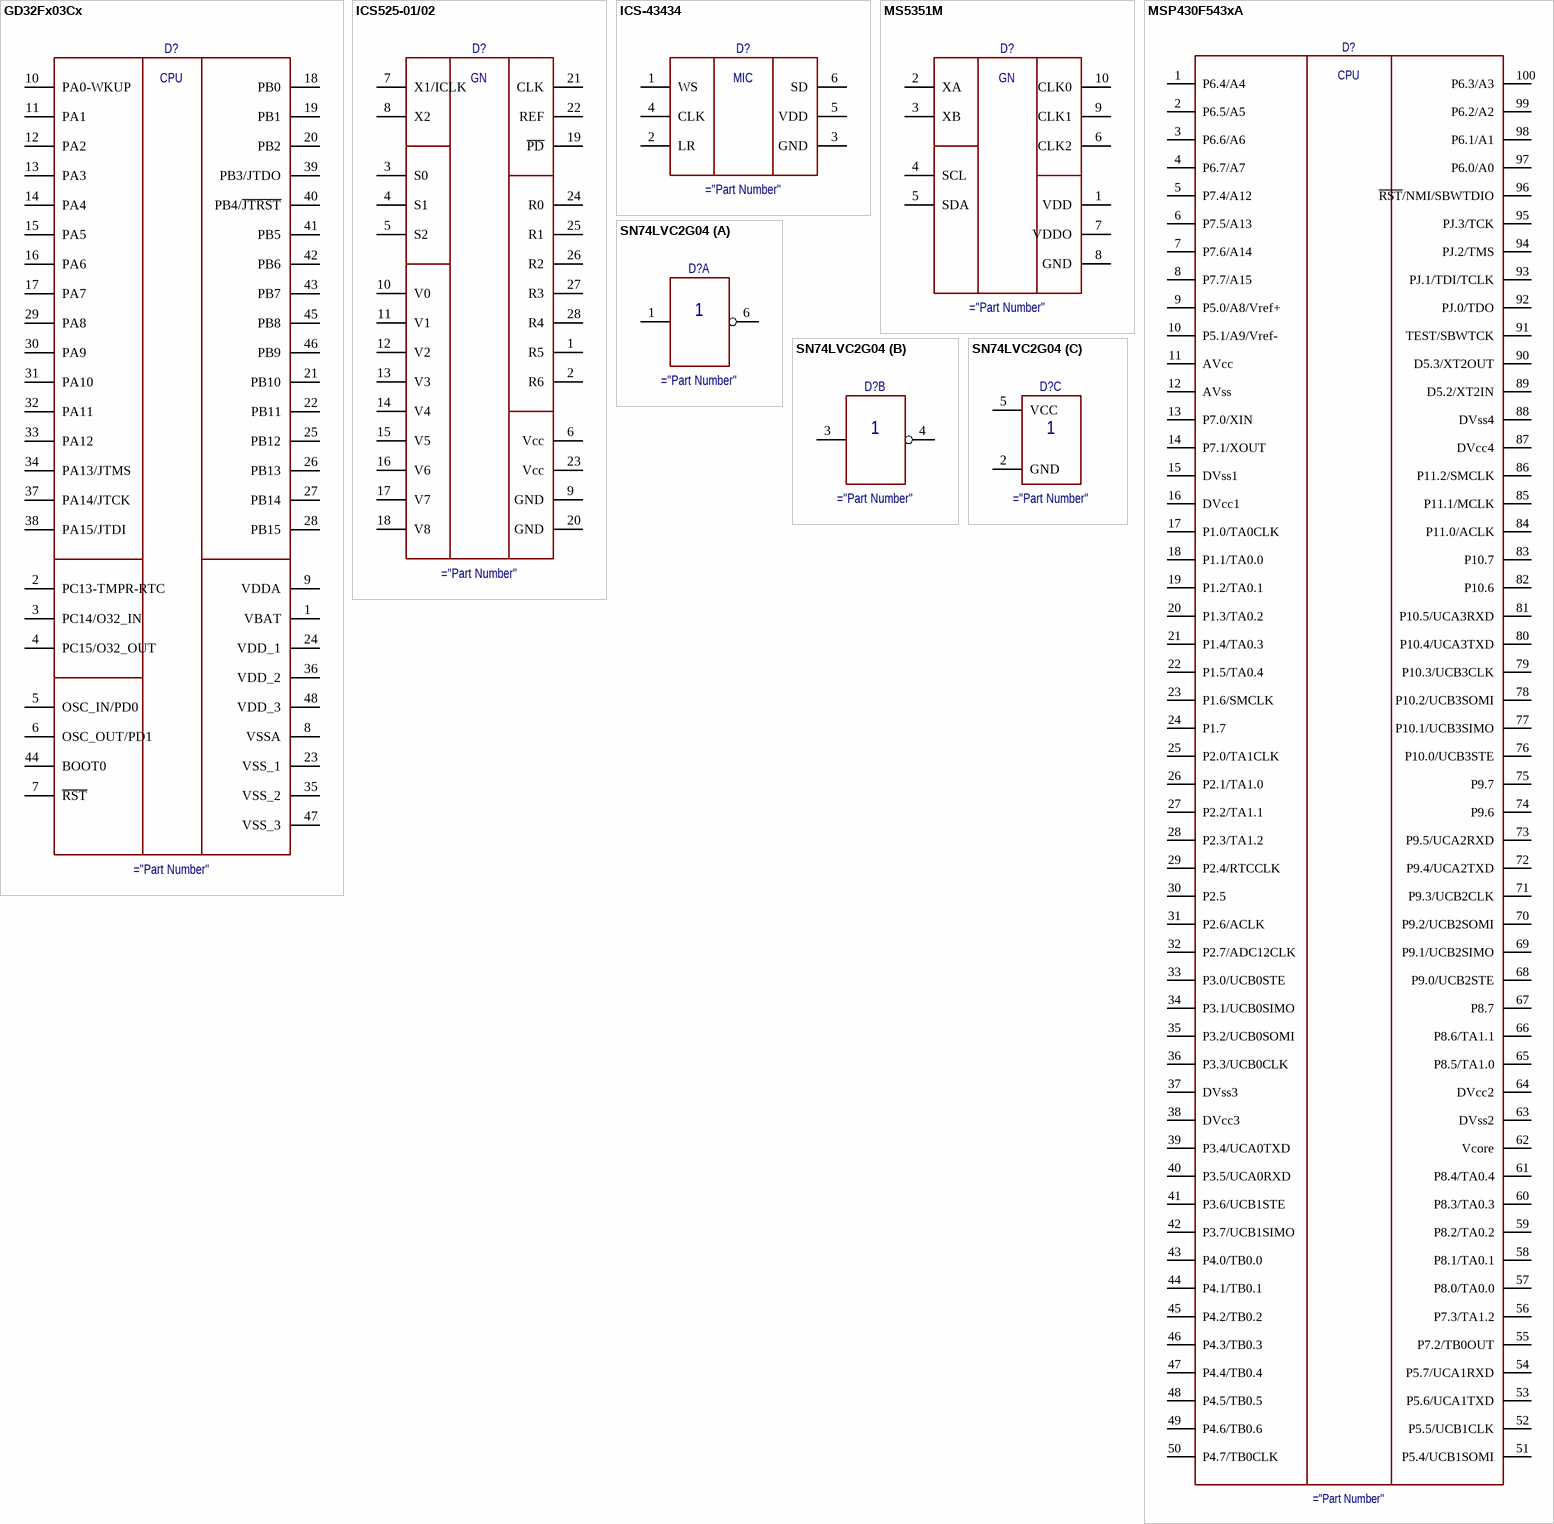
[diagram p5: symbols GD32Fx03Cx to SN74LVC2G04]

## GD32Fx03Cx
designator D?
MCU Cortex-M
pins: 1 VBAT, 2 PC13-TMPR-RTC, 3 PC14/O32_IN, 4 PC15/O32_OUT, 5 OSC_IN/PD0, 6 OSC_OUT/PD1, 7 ~{RST}, 8 VSSA, 9 VDDA, 10 PA0-WKUP, 11 PA1, 12 PA2, 13 PA3, 14 PA4, 15 PA5, 16 PA6, 17 PA7, 18 PB0, 19 PB1, 20 PB2, 21 PB10, 22 PB11, 23 VSS_1, 24 VDD_1, 25 PB12, 26 PB13, 27 PB14, 28 PB15, 29 PA8, 30 PA9, 31 PA10, 32 PA11, 33 PA12, 34 PA13/JTMS, 35 VSS_2, 36 VDD_2, 37 PA14/JTCK, 38 PA15/JTDI, 39 PB3/JTDO, 40 PB4/~{JTRST}, 41 PB5, 42 PB6, 43 PB7, 44 BOOT0, 45 PB8, 46 PB9, 47 VSS_3, 48 VDD_3
text: CPU

## ICS525-01/02
designator D?
Configurable Clock
pins: 1 R5, 2 R6, 3 S0, 4 S1, 5 S2, 6 Vcc, 7 X1/ICLK, 8 X2, 9 GND, 10 V0, 11 V1, 12 V2, 13 V3, 14 V4, 15 V5, 16 V6, 17 V7, 18 V8, 19 ~{PD}, 20 GND, 21 CLK, 22 REF, 23 Vcc, 24 R0, 25 R1, 26 R2, 27 R3, 28 R4
text: GN

## ICS-43434
designator D?
MEMS microhpone
pins: 1 WS, 2 LR, 3 GND, 4 CLK, 5 VDD, 6 SD
text: MIC

## MS5351M
designator D?
Configurable Clock
pins: 1 VDD, 2 XA, 3 XB, 4 SCL, 5 SDA, 6 CLK2, 7 VDDO, 8 GND, 9 CLK1, 10 CLK0
text: GN

## MSP430F543xA
designator D?
MCU 16-bit
pins: 1 P6.4/A4, 2 P6.5/A5, 3 P6.6/A6, 4 P6.7/A7, 5 P7.4/A12, 6 P7.5/A13, 7 P7.6/A14, 8 P7.7/A15, 9 P5.0/A8/Vref+, 10 P5.1/A9/Vref-, 11 AVcc, 12 AVss, 13 P7.0/XIN, 14 P7.1/XOUT, 15 DVss1, 16 DVcc1, 17 P1.0/TA0CLK, 18 P1.1/TA0.0, 19 P1.2/TA0.1, 20 P1.3/TA0.2, 21 P1.4/TA0.3, 22 P1.5/TA0.4, 23 P1.6/SMCLK, 24 P1.7, 25 P2.0/TA1CLK, 26 P2.1/TA1.0, 27 P2.2/TA1.1, 28 P2.3/TA1.2, 29 P2.4/RTCCLK, 30 P2.5, 31 P2.6/ACLK, 32 P2.7/ADC12CLK, 33 P3.0/UCB0STE, 34 P3.1/UCB0SIMO, 35 P3.2/UCB0SOMI, 36 P3.3/UCB0CLK, 37 DVss3, 38 DVcc3, 39 P3.4/UCA0TXD, 40 P3.5/UCA0RXD, 41 P3.6/UCB1STE, 42 P3.7/UCB1SIMO, 43 P4.0/TB0.0, 44 P4.1/TB0.1, 45 P4.2/TB0.2, 46 P4.3/TB0.3, 47 P4.4/TB0.4, 48 P4.5/TB0.5, 49 P4.6/TB0.6, 50 P4.7/TB0CLK, 51 P5.4/UCB1SOMI, 52 P5.5/UCB1CLK, 53 P5.6/UCA1TXD, 54 P5.7/UCA1RXD, 55 P7.2/TB0OUT, 56 P7.3/TA1.2, 57 P8.0/TA0.0, 58 P8.1/TA0.1, 59 P8.2/TA0.2, 60 P8.3/TA0.3, 61 P8.4/TA0.4, 62 Vcore, 63 DVss2, 64 DVcc2, 65 P8.5/TA1.0, 66 P8.6/TA1.1, 67 P8.7, 68 P9.0/UCB2STE, 69 P9.1/UCB2SIMO, 70 P9.2/UCB2SOMI, 71 P9.3/UCB2CLK, 72 P9.4/UCA2TXD, 73 P9.5/UCA2RXD, 74 P9.6, 75 P9.7, 76 P10.0/UCB3STE, 77 P10.1/UCB3SIMO, 78 P10.2/UCB3SOMI, 79 P10.3/UCB3CLK, 80 P10.4/UCA3TXD, 81 P10.5/UCA3RXD, 82 P10.6, 83 P10.7, 84 P11.0/ACLK, 85 P11.1/MCLK, 86 P11.2/SMCLK, 87 DVcc4, 88 DVss4, 89 D5.2/XT2IN, 90 D5.3/XT2OUT, 91 TEST/SBWTCK, 92 PJ.0/TDO, 93 PJ.1/TDI/TCLK, 94 PJ.2/TMS, 95 PJ.3/TCK, 96 ~{RST}/NMI/SBWTDIO, 97 P6.0/A0, 98 P6.1/A1, 99 P6.2/A2, 100 P6.3/A3
text: CPU

## SN74LVC2G04
designator D?
2 элемента НЕ
part A pins: 1 X1, 6 Y1
part B pins: 3 X2, 4 Y2
part C pins: 2 GND, 5 VCC

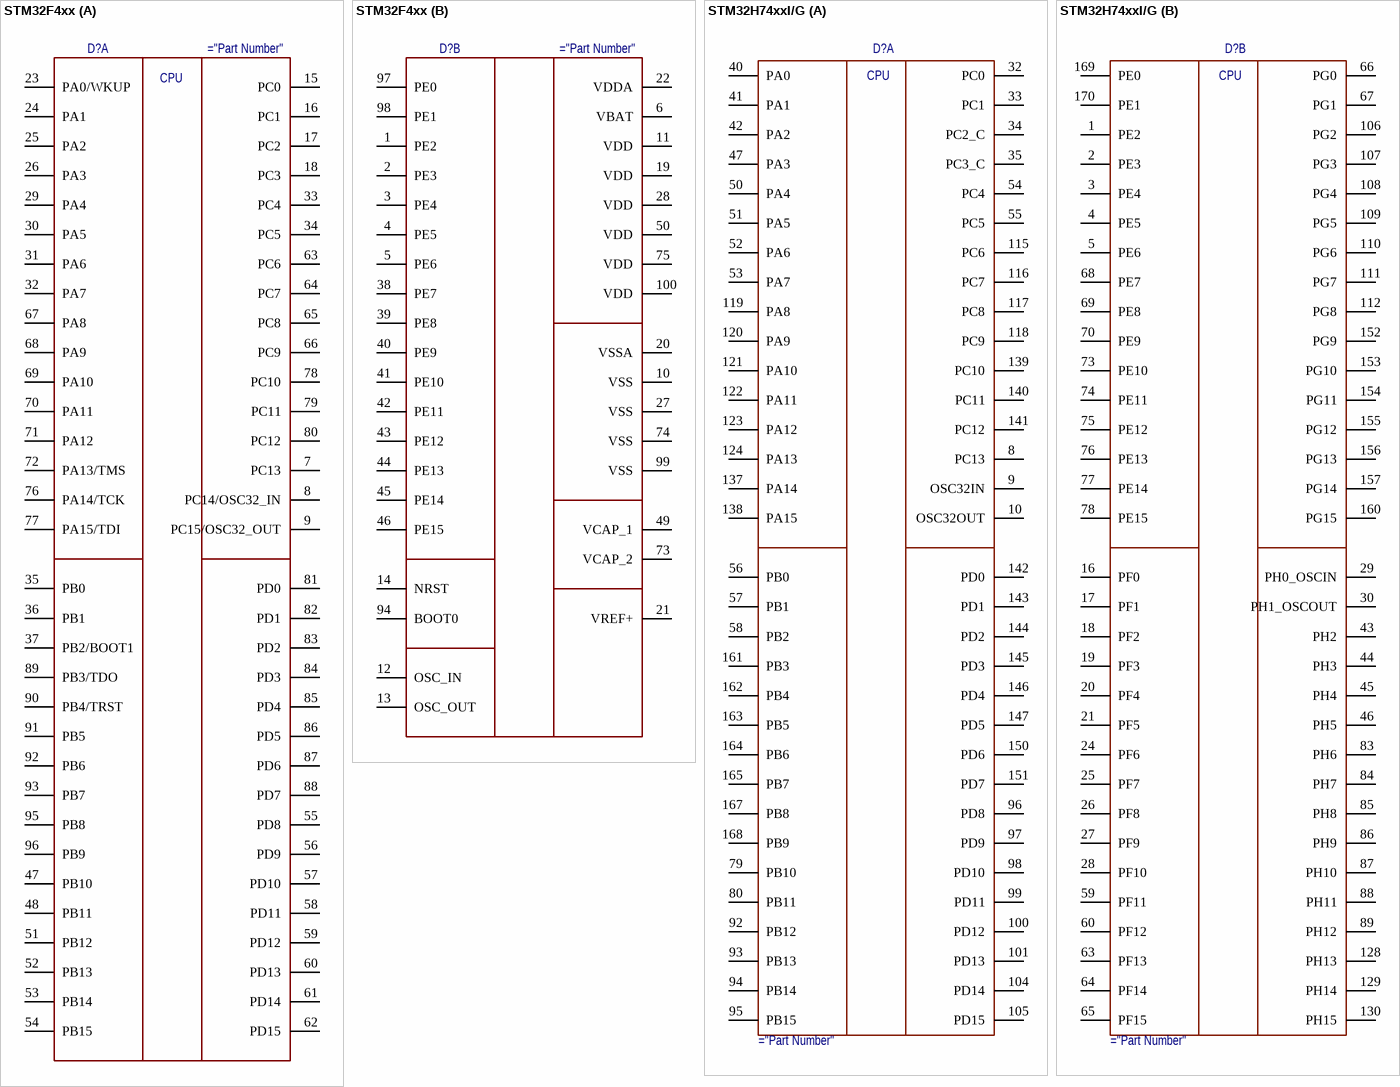
[diagram p6: symbols STM32F4xx to STM32H74xxI/G]

## STM32F4xx
designator D?
MCU Cortex-M4
part A pins: 7 PC13, 8 PC14/OSC32_IN, 9 PC15/OSC32_OUT, 15 PC0, 16 PC1, 17 PC2, 18 PC3, 23 PA0/WKUP, 24 PA1, 25 PA2, 26 PA3, 29 PA4, 30 PA5, 31 PA6, 32 PA7, 33 PC4, 34 PC5, 35 PB0, 36 PB1, 37 PB2/BOOT1, 47 PB10, 48 PB11, 51 PB12, 52 PB13, 53 PB14, 54 PB15, 55 PD8, 56 PD9, 57 PD10, 58 PD11, 59 PD12, 60 PD13, 61 PD14, 62 PD15, 63 PC6, 64 PC7, 65 PC8, 66 PC9, 67 PA8, 68 PA9, 69 PA10, 70 PA11, 71 PA12, 72 PA13/TMS, 76 PA14/TCK, 77 PA15/TDI, 78 PC10, 79 PC11, 80 PC12, 81 PD0, 82 PD1, 83 PD2, 84 PD3, 85 PD4, 86 PD5, 87 PD6, 88 PD7, 89 PB3/TDO, 90 PB4/TRST, 91 PB5, 92 PB6, 93 PB7, 95 PB8, 96 PB9
part B pins: 1 PE2, 2 PE3, 3 PE4, 4 PE5, 5 PE6, 6 VBAT (power), 10 VSS (power), 11 VDD (power), 12 OSC_IN, 13 OSC_OUT, 14 NRST, 19 VDD (power), 20 VSSA (power), 21 VREF+ (power), 22 VDDA (power), 27 VSS (power), 28 VDD (power), 38 PE7, 39 PE8, 40 PE9, 41 PE10, 42 PE11, 43 PE12, 44 PE13, 45 PE14, 46 PE15, 49 VCAP_1 (power), 50 VDD (power), 73 VCAP_2 (power), 74 VSS (power), 75 VDD (power), 94 BOOT0, 97 PE0, 98 PE1, 99 VSS (power), 100 VDD (power)
part A text: CPU

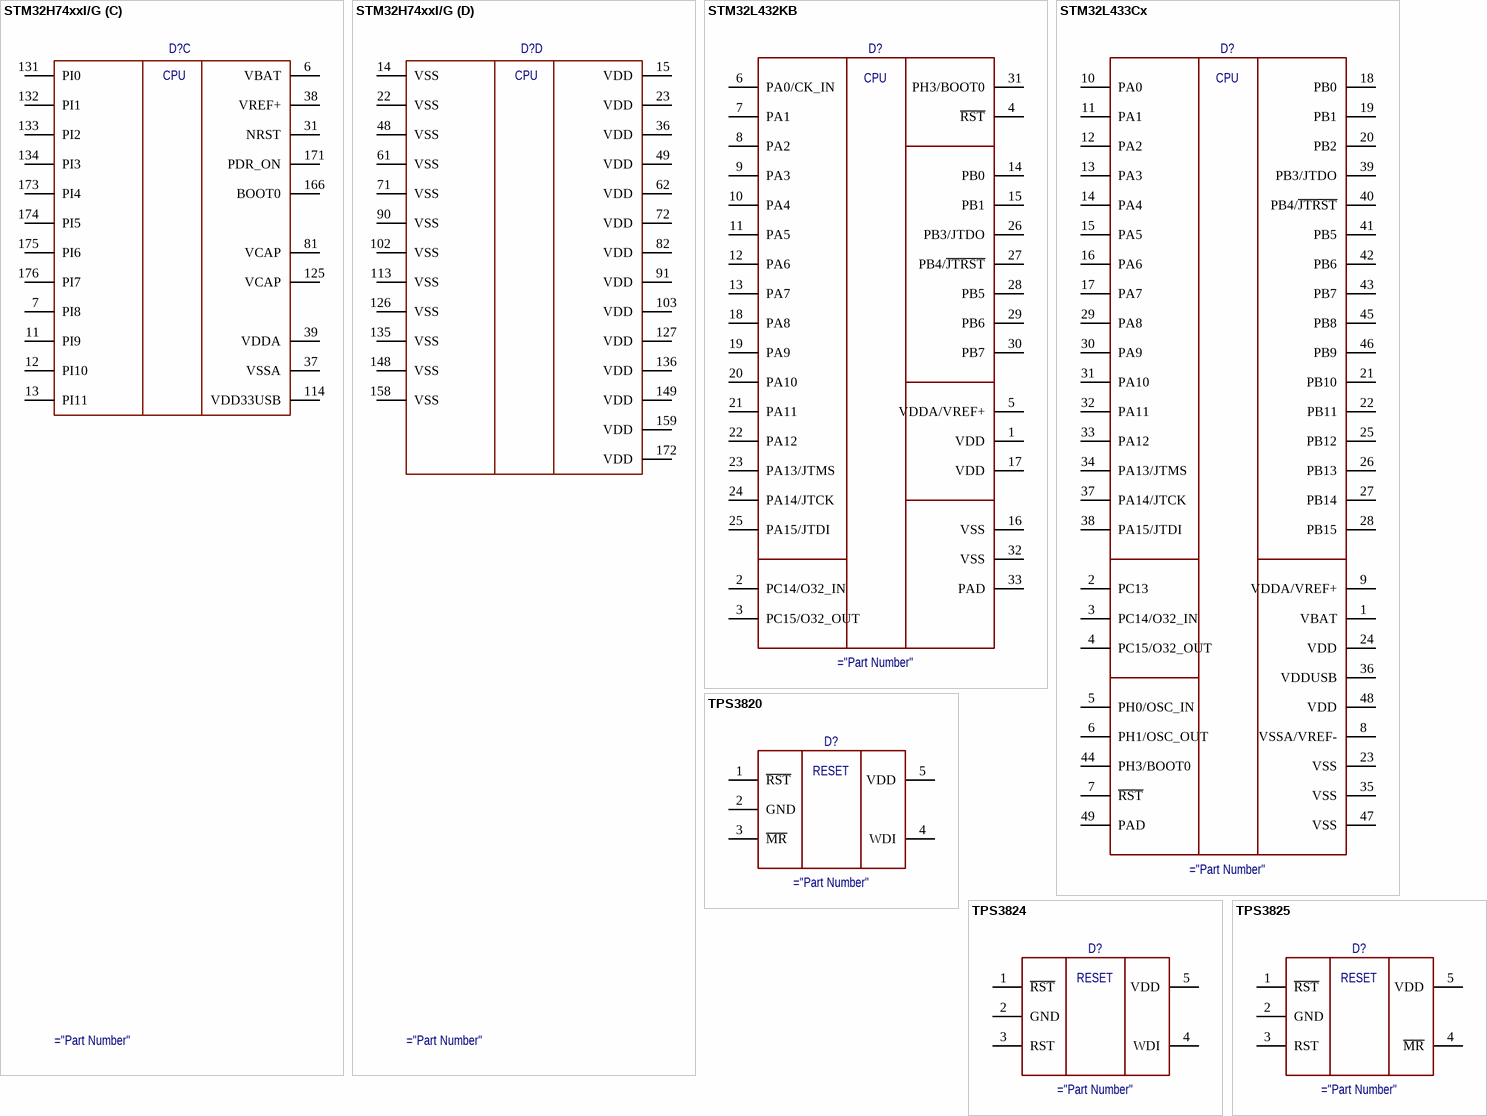
[diagram p7: symbols STM32H74xxI/G to TPS3825]

## STM32H74xxI/G
designator D?
part A pins: 8 PC13, 9 OSC32IN, 10 OSC32OUT, 32 PC0, 33 PC1, 34 PC2_C, 35 PC3_C, 40 PA0, 41 PA1, 42 PA2, 47 PA3, 50 PA4, 51 PA5, 52 PA6, 53 PA7, 54 PC4, 55 PC5, 56 PB0, 57 PB1, 58 PB2, 79 PB10, 80 PB11, 92 PB12, 93 PB13, 94 PB14, 95 PB15, 96 PD8, 97 PD9, 98 PD10, 99 PD11, 100 PD12, 101 PD13, 104 PD14, 105 PD15, 115 PC6, 116 PC7, 117 PC8, 118 PC9, 119 PA8, 120 PA9, 121 PA10, 122 PA11, 123 PA12, 124 PA13, 137 PA14, 138 PA15, 139 PC10, 140 PC11, 141 PC12, 142 PD0, 143 PD1, 144 PD2, 145 PD3, 146 PD4, 147 PD5, 150 PD6, 151 PD7, 161 PB3, 162 PB4, 163 PB5, 164 PB6, 165 PB7, 167 PB8, 168 PB9
part B pins: 1 PE2, 2 PE3, 3 PE4, 4 PE5, 5 PE6, 16 PF0, 17 PF1, 18 PF2, 19 PF3, 20 PF4, 21 PF5, 24 PF6, 25 PF7, 26 PF8, 27 PF9, 28 PF10, 29 PH0_OSCIN, 30 PH1_OSCOUT, 43 PH2, 44 PH3, 45 PH4, 46 PH5, 59 PF11, 60 PF12, 63 PF13, 64 PF14, 65 PF15, 66 PG0, 67 PG1, 68 PE7, 69 PE8, 70 PE9, 73 PE10, 74 PE11, 75 PE12, 76 PE13, 77 PE14, 78 PE15, 83 PH6, 84 PH7, 85 PH8, 86 PH9, 87 PH10, 88 PH11, 89 PH12, 106 PG2, 107 PG3, 108 PG4, 109 PG5, 110 PG6, 111 PG7, 112 PG8, 128 PH13, 129 PH14, 130 PH15, 152 PG9, 153 PG10, 154 PG11, 155 PG12, 156 PG13, 157 PG14, 160 PG15, 169 PE0, 170 PE1
part C pins: 6 VBAT, 7 PI8, 11 PI9, 12 PI10, 13 PI11, 31 NRST, 37 VSSA, 38 VREF+, 39 VDDA, 81 VCAP, 114 VDD33USB, 125 VCAP, 131 PI0, 132 PI1, 133 PI2, 134 PI3, 166 BOOT0, 171 PDR_ON, 173 PI4, 174 PI5, 175 PI6, 176 PI7
part D pins: 14 VSS, 15 VDD, 22 VSS, 23 VDD, 36 VDD, 48 VSS, 49 VDD, 61 VSS, 62 VDD, 71 VSS, 72 VDD, 82 VDD, 90 VSS, 91 VDD, 102 VSS, 103 VDD, 113 VSS, 126 VSS, 127 VDD, 135 VSS, 136 VDD, 148 VSS, 149 VDD, 158 VSS, 159 VDD, 172 VDD
part A text: CPU
part B text: CPU
part C text: CPU
part D text: CPU

## STM32L432KB
designator D?
MCU Cortex-M4
pins: 1 VDD, 2 PC14/O32_IN, 3 PC15/O32_OUT, 4 ~{RST}, 5 VDDA/VREF+, 6 PA0/CK_IN, 7 PA1, 8 PA2, 9 PA3, 10 PA4, 11 PA5, 12 PA6, 13 PA7, 14 PB0, 15 PB1, 16 VSS, 17 VDD, 18 PA8, 19 PA9, 20 PA10, 21 PA11, 22 PA12, 23 PA13/JTMS, 24 PA14/JTCK, 25 PA15/JTDI, 26 PB3/JTDO, 27 PB4/~{JTRST}, 28 PB5, 29 PB6, 30 PB7, 31 PH3/BOOT0, 32 VSS, 33 PAD
text: CPU

## STM32L433Cx
designator D?
MCU Cortex-M4
pins: 1 VBAT, 2 PC13, 3 PC14/O32_IN, 4 PC15/O32_OUT, 5 PH0/OSC_IN, 6 PH1/OSC_OUT, 7 ~{RST}, 8 VSSA/VREF-, 9 VDDA/VREF+, 10 PA0, 11 PA1, 12 PA2, 13 PA3, 14 PA4, 15 PA5, 16 PA6, 17 PA7, 18 PB0, 19 PB1, 20 PB2, 21 PB10, 22 PB11, 23 VSS, 24 VDD, 25 PB12, 26 PB13, 27 PB14, 28 PB15, 29 PA8, 30 PA9, 31 PA10, 32 PA11, 33 PA12, 34 PA13/JTMS, 35 VSS, 36 VDDUSB, 37 PA14/JTCK, 38 PA15/JTDI, 39 PB3/JTDO, 40 PB4/~{JTRST}, 41 PB5, 42 PB6, 43 PB7, 44 PH3/BOOT0, 45 PB8, 46 PB9, 47 VSS, 48 VDD, 49 PAD
text: CPU

## TPS3820
designator D?
Supervisors
pins: 1 ~{RST}, 2 GND, 3 ~{MR}, 4 WDI, 5 VDD
text: RESET

## TPS3824
designator D?
Supervisors
pins: 1 ~{RST}, 2 GND, 3 RST, 4 WDI, 5 VDD
text: RESET

## TPS3825
designator D?
Supervisors
pins: 1 ~{RST}, 2 GND, 3 RST, 4 ~{MR}, 5 VDD
text: RESET

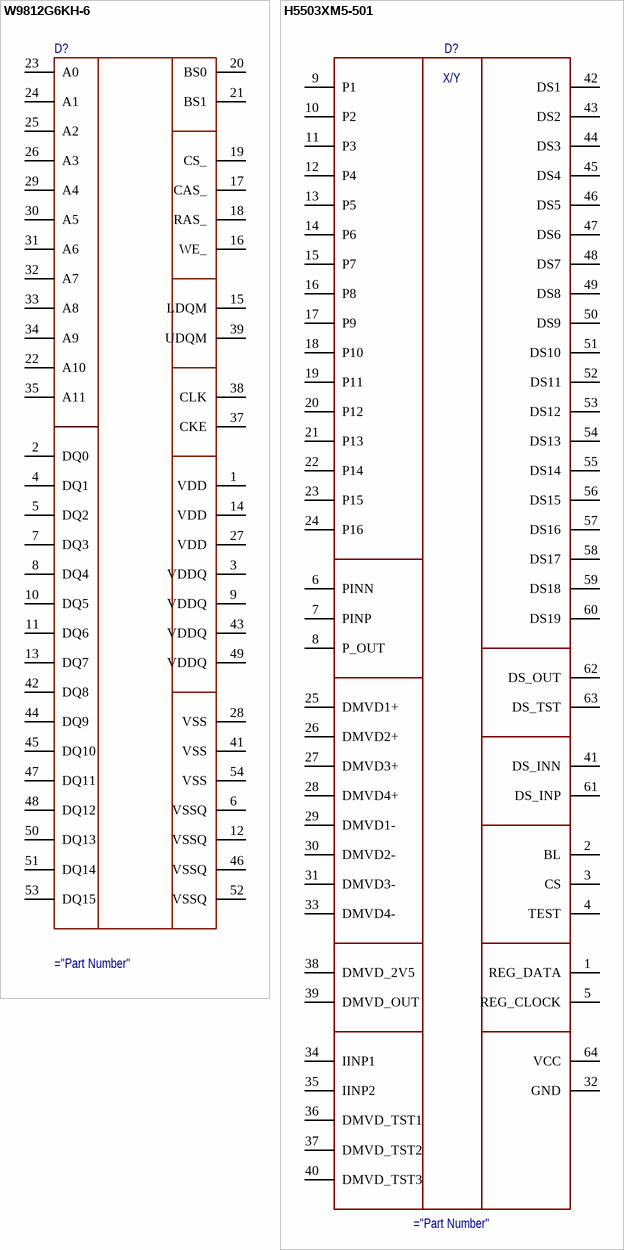
[diagram p8: symbols W9812G6KH-6 to Н5503ХМ5-501]

## W9812G6KH-6
designator D?
SDRAM, 4MB
pins: 1 VDD, 2 DQ0, 3 VDDQ, 4 DQ1, 5 DQ2, 6 VSSQ, 7 DQ3, 8 DQ4, 9 VDDQ, 10 DQ5, 11 DQ6, 12 VSSQ, 13 DQ7, 14 VDD, 15 LDQM, 16 WE_, 17 CAS_, 18 RAS_, 19 CS_, 20 BS0, 21 BS1, 22 A10, 23 A0, 24 A1, 25 A2, 26 A3, 27 VDD, 28 VSS, 29 A4, 30 A5, 31 A6, 32 A7, 33 A8, 34 A9, 35 A11, 37 CKE, 38 CLK, 39 UDQM, 41 VSS, 42 DQ8, 43 VDDQ, 44 DQ9, 45 DQ10, 46 VSSQ, 47 DQ11, 48 DQ12, 49 VDDQ, 50 DQ13, 51 DQ14, 52 VSSQ, 53 DQ15, 54 VSS

## Н5503ХМ5-501
designator D?
Mux
pins: 1 REG_DATA, 2 BL, 3 CS, 4 TEST, 5 REG_CLOCK, 6 PINN, 7 PINP, 8 P_OUT, 9 P1, 10 P2, 11 P3, 12 P4, 13 P5, 14 P6, 15 P7, 16 P8, 17 P9, 18 P10, 19 P11, 20 P12, 21 P13, 22 P14, 23 P15, 24 P16, 25 DMVD1+, 26 DMVD2+, 27 DMVD3+, 28 DMVD4+, 29 DMVD1-, 30 DMVD2-, 31 DMVD3-, 32 GND, 33 DMVD4-, 34 IINP1, 35 IINP2, 36 DMVD_TST1, 37 DMVD_TST2, 38 DMVD_2V5, 39 DMVD_OUT, 40 DMVD_TST3, 41 DS_INN, 42 DS1, 43 DS2, 44 DS3, 45 DS4, 46 DS5, 47 DS6, 48 DS7, 49 DS8, 50 DS9, 51 DS10, 52 DS11, 53 DS12, 54 DS13, 55 DS14, 56 DS15, 57 DS16, 58 DS17, 59 DS18, 60 DS19, 61 DS_INP, 62 DS_OUT, 63 DS_TST, 64 VCC
text: X/Y